# EAGLE library part DS1013-20SSIB1-B-0 (library DS1013-20SSIB1-B-0)
Socket; IDC; male; PIN: 20; straight; THT; gold-plated; 2.54mm Source: Datasheet <https://www.tme.eu/Document/e9117e1c80532ff2c20cc520b4694ed9/DS1013.pdf>
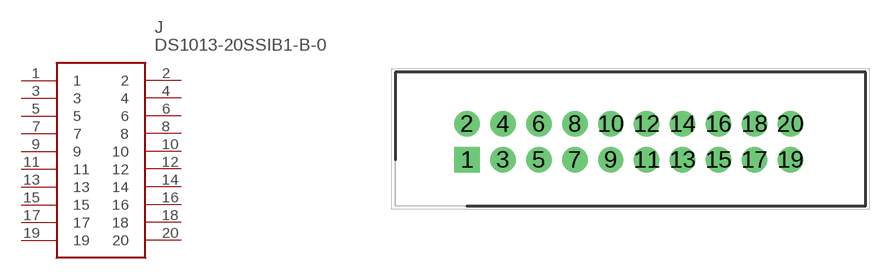
[diagram p0: symbol with the pads of SHDR20W69P254X254_2X10_3300X91; footprint SHDR20W69P254X254_2X10_3300X91]

Designator prefix J

## DS1013-20SSIB1-B-0 (Description: Socket; IDC; male; PIN: 20; straight; THT; gold-plated; 2.54mm; Height: 9.55mm; Manufacturer_Name: Connfly; Manufacturer_Part_Number: DS1013-20SSIB1-B-0)  [SHDR20W69P254X254_2X10_3300X91]
1  1
2  2
3  3
4  4
5  5
6  6
7  7
8  8
9  9
10  10
11  11
12  12
13  13
14  14
15  15
16  16
17  17
18  18
19  19
20  20

## Footprint SHDR20W69P254X254_2X10_3300X91 (pad centres in mm)
DS1013-20SSIB1-B-0
drill 1.2 pad 1.8 square: 1 0,0
drill 1.2 pad 1.8: 2 0,2.54; 3 2.54,0; 4 2.54,2.54; 5 5.08,0; 6 5.08,2.54; 7 7.62,0; 8 7.62,2.54; 9 10.16,0; 10 10.16,2.54; 11 12.7,0; 12 12.7,2.54; 13 15.24,0; 14 15.24,2.54; 15 17.78,0; 16 17.78,2.54; 17 20.32,0; 18 20.32,2.54; 19 22.86,0; 20 22.86,2.54